# EAGLE library part LM4881 (library old-4ms-main-parts)
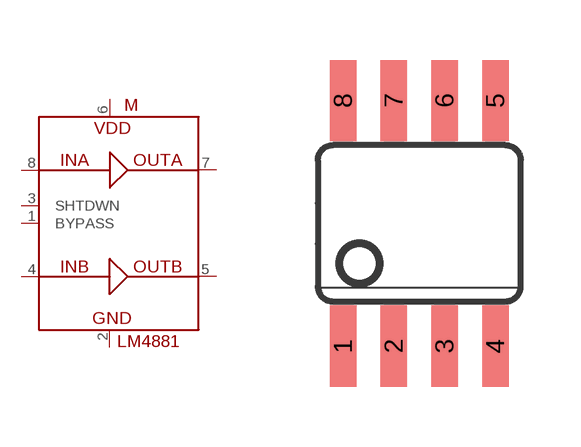
[diagram p14: symbol with the pads of SO08; footprint SO08]

Designator prefix M

## LM4881  [SO08]
1  BYPASS
2  GND  pwr
3  SHTDWN
4  VINB
5  OUTB
6  VDD  pwr
7  OUTA
8  VINA

## Footprint SO08 (pad centres in mm)
SO08
smd 0.66 x 2.032: 1 -1.905,-3.073; 2 -0.635,-3.073; 3 0.635,-3.073; 4 1.905,-3.073; 5 1.905,3.073; 6 0.635,3.073; 7 -0.635,3.073; 8 -1.905,3.073